# Altium schematic symbol library Comparator.SchLib: 2 symbols
Pins are listed as number, name and electrical type; pins without a type are passive.

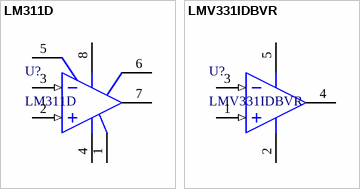
[diagram p0: symbols LM311D to LMV331IDBVR]

## LM311D
designator U?
LM311D Differential Comparators
footprint SO-8_3.9x4.9mm_P1.27mm (SOIC, 8-Leads, Body 4.9x3.90mm, Pitch 1.27mm, IPC Medium Density)
pins: 1 GND (power), 2 IN+ (in), 3 IN- (in), 4 V- (CASE) (power), 5 BAL, 6 BAL/STB, 7 OUT (oc), 8 V+ (power)

## LMV331IDBVR
designator U?
LM311D 单路通用低压比较器
footprint SOT-23-5 (SOT23, 5-Leads, Body 2.90x2.45mm, Pitch 0.95mm, IPC Medium Density)
pins: 1 IN+ (in), 2 V- (power), 3 IN- (in), 4 OUT (oc), 5 V+ (power)